# Altium schematic symbol library Scales.SchLib: 1 symbol
Pins are listed as number, name and electrical type; pins without a type are passive.

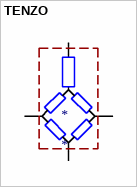
[diagram p0: symbol TENZO]

## TENZO
designator *
footprint CON: PLS-4 (PLS-40 4 pin header)
pins: 1, 2, 3, 4